# Altium schematic symbol library 15-ADDA_lib.SchLib: 1 symbol
Pins are listed as number, name and electrical type; pins without a type are passive.

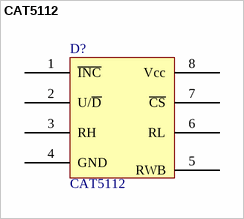
[diagram p0: symbol CAT5112]

## CAT5112
designator D?
footprint SOIC8
pins: 1 ~{INC}, 2 U/~{D}, 3 RH, 4 GND, 5 RWB, 6 RL, 7 ~{CS}, 8 Vcc
2 alternate drawings of the same symbol